# Altium footprint library BoilerAutoFill.PcbLib: 15 footprints
Each footprint in its own frame and in the unit in brackets; x right, y up, seen from the top. Pads: shape width x height; smd on the part's side, far side on the other; paste and mask are expansions set on the pad; w line width, h text height; cw(c..) or ccw(c..) is an arc to the next point about the centre after c.
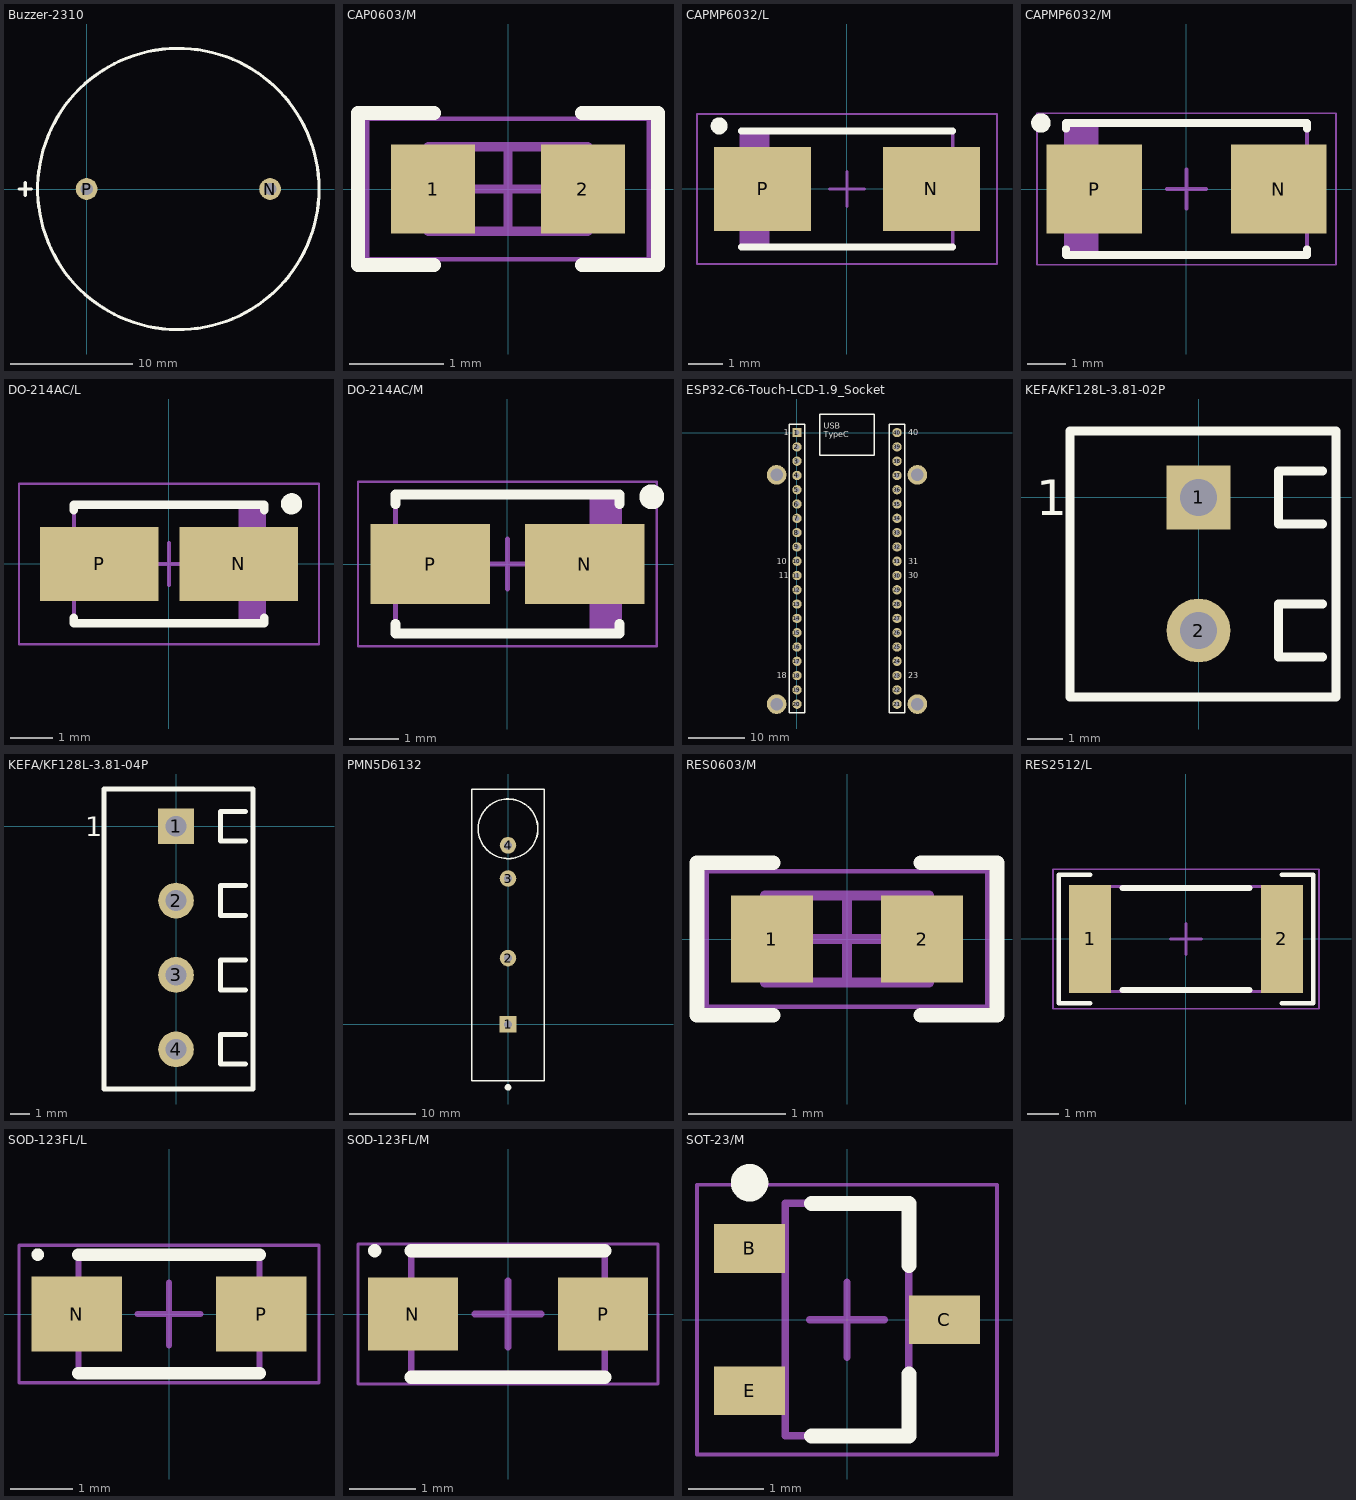
[diagram p0: the footprints below, top view; thin cyan lines are the x and y axes]

## Buzzer-2310 [mil]
height 393.7
pads (2):
  round 70 hole 40: N(590.55,0) P(0,0)
Top Overlay:
  circle w10: c295.28,0 r452.76
  lines w10: -217.5,0 -177.5,0 ; -197.5,-20 -197.5,20
3D body: height 393.7, standoff 0, extent -157.48,-452.76 748.03,452.76

## CAP0603/M [mm] "Chip Capacitor, 2-Leads, Body 1.60x0.80mm, IPC Medium Density"
height 0.9
pads (2):
  rect 0.9x0.95 smd: 1(-0.8,0) 2(0.8,0)
Top Overlay:
  lines w0.15: -0.787,-0.813 -1.6,-0.813 -1.6,0.813 -0.787,0.813 ; 0.787,-0.813 1.6,-0.813 1.6,0.813 0.787,0.813
Mechanical 13:
  lines w0.1: -0.85,-0.45 0.85,-0.45 0.85,0.45 -0.85,0.45 -0.85,-0.45
Mechanical 15:
  lines w0.05: -1.5,-0.75 1.5,-0.75 1.5,0.75 -1.5,0.75 -1.5,-0.75
  lines w0.1: -0.45,0 0.45,0 ; 0,-0.45 0,0.45
3D body "CAPC1608X09N.step": height 0.9, standoff 0, extent -0.85,-0.45 0.85,0.45

## CAPMP6032/L [mm] "Molded Capacitor, 2-Leads, Body 6.00x3.25mm, IPC Low Density"
height 2.8
pads (2):
  rect 2.85x2.45 smd: N(2.475,0) P(-2.475,0)
Top Overlay:
  circle w0.25: c-3.75,1.85 r0.125
  lines w0.2: -3.1,-1.7 3.1,-1.7 ; -3.1,1.7 3.1,1.7
Mechanical 13:
  rectangle: -3.1,-1.7 -2.266,1.7
  lines w0.1: -3.1,-1.7 -3.1,1.7 3.1,1.7 3.1,-1.7 -3.1,-1.7
Mechanical 15:
  lines w0.05: -4.4,-2.2 -4.4,2.2 4.4,2.2 4.4,-2.2 -4.4,-2.2
  lines w0.1: -0.5,0 0.5,0 ; 0,-0.5 0,0.5
3D body "CAPMP6032X28M.step": height 2.8, standoff 0, extent -3.32,-1.7 3.32,1.7

## CAPMP6032/M [mm] "Molded Capacitor, 2-Leads, Body 6.00x3.25mm, IPC Medium Density"
height 2.8
pads (2):
  rect 2.45x2.3 smd: N(2.375,0) P(-2.375,0)
Top Overlay:
  circle w0.25: c-3.75,1.7 r0.125
  lines w0.2: -3.1,-1.55 -3.1,-1.7 3.1,-1.7 3.1,-1.55 ; -3.1,1.55 -3.1,1.7 3.1,1.7 3.1,1.55
Mechanical 13:
  rectangle: -3.1,-1.7 -2.266,1.7
  lines w0.1: -3.1,-1.7 -3.1,1.7 3.1,1.7 3.1,-1.7 -3.1,-1.7
Mechanical 15:
  lines w0.05: -3.85,-1.95 -3.85,1.95 3.85,1.95 3.85,-1.95 -3.85,-1.95
  lines w0.1: -0.5,0 0.5,0 ; 0,-0.5 0,0.5
3D body "CAPMP6032X28N.step": height 2.8, standoff 0, extent -3.32,-1.7 3.32,1.7

## DO-214AC/L [mm] "Molded Diode, 2-Leads, Body 4.25x2.60mm, IPC Low Density"
height 2.42
pads (2):
  rect 2.8x1.75 smd: N(1.65,0) P(-1.65,0)
Top Overlay:
  circle w0.25: c2.9,1.425 r0.125
  lines w0.2: -2.25,-1.275 -2.25,-1.4 2.25,-1.4 2.25,-1.275 ; -2.25,1.275 -2.25,1.4 2.25,1.4 2.25,1.275
Mechanical 13:
  rectangle: 1.645,-1.4 2.25,1.4
  lines w0.1: -2.25,-1.4 2.25,-1.4 2.25,1.4 -2.25,1.4 -2.25,-1.4
Mechanical 15:
  lines w0.05: -3.55,-1.9 3.55,-1.9 3.55,1.9 -3.55,1.9 -3.55,-1.9
  lines w0.1: -0.5,0 0.5,0 ; 0,-0.5 0,0.5
3D body "DIOM4226X24M.step": height 2.42, standoff 0, extent -2.47,-1.4 2.47,1.4

## DO-214AC/M [mm] "Molded Diode, 2-Leads, Body 4.25x2.60mm, IPC Medium Density"
height 2.42
pads (2):
  rect 2.4x1.6 smd: N(1.55,0) P(-1.55,0)
Top Overlay:
  circle w0.25: c2.9,1.35 r0.125
  lines w0.2: -2.25,-1.2 -2.25,-1.4 2.25,-1.4 2.25,-1.2 ; -2.25,1.2 -2.25,1.4 2.25,1.4 2.25,1.2
Mechanical 13:
  rectangle: 1.645,-1.4 2.25,1.4
  lines w0.1: -2.25,-1.4 -2.25,1.4 2.25,1.4 2.25,-1.4 -2.25,-1.4
Mechanical 15:
  lines w0.05: -3,-1.65 -3,1.65 3,1.65 3,-1.65 -3,-1.65
  lines w0.1: -0.5,0 0.5,0 ; 0,-0.5 0,0.5
3D body "DIOM4226X24N.step": height 2.42, standoff 0, extent -2.47,-1.4 2.47,1.4

## ESP32-C6-Touch-LCD-1.9_Socket [mil]
pads (44):
  rect 65x65 hole 35: 1(0,0)
  round 65 hole 35: 2(0,-100) 3(0,-200) 4(0,-300) 5(0,-400) 6(0,-500) 7(0,-600) 8(0,-700) 9(0,-800) 10(0,-900) 11(0,-1000) 12(0,-1100) 13(0,-1200) 14(0,-1300) 15(0,-1400) 16(0,-1500) 17(0,-1600) 18(0,-1700) 19(0,-1800) 20(0,-1900) 21(700,-1900) 22(700,-1800) 23(700,-1700) 24(700,-1600) 25(700,-1500) 26(700,-1400) 27(700,-1300) 28(700,-1200) 29(700,-1100) 30(700,-1000) 31(700,-900) 32(700,-800) 33(700,-700) 34(700,-600) 35(700,-500) 36(700,-400) 37(700,-300) 38(700,-200) 39(700,-100) 40(700,0)
  round 137.8 hole 86.61: ""(-142.13,-1900) ""(-142.13,-295.67) ""(842.13,-1900) ""(842.13,-295.67)
Top Overlay:
  lines w10: -55,-1960 55,-1960 55,60 -55,60 -55,-1960 ; 160,-160 540,-160 540,130 160,130 160,-160 ; 645,-1960 755,-1960 755,60 645,60 645,-1960
  text "USB / TypeC" at 186.72,-32.65 h40
  text "1" at -93.33,-19.99 h40
  text "10" at -139.98,-919.99 h40
  text "11" at -126.65,-1019.99 h40
  text "18" at -139.98,-1719.99 h40
  text "23" at 780,-1719.99 h40
  text "30" at 780,-1019.99 h40
  text "31" at 780,-919.99 h40
  text "40" at 780,-19.99 h40
3D body: height 760, standoff 300, extent -270,-2035 970,135
3D body: height 300, standoff 0, extent 645,-1960 755,60
3D body: height 300, standoff 0, extent -55,-1960 55,60

## KEFA/KF128L-3.81-02P [mil]
pads (2):
  rect 72x72 hole 42: 1(0,0)
  round 72 hole 42: 2(0,-150)
Top Overlay:
  lines w10: 140,-180 90,-180 90,-120 140,-120 ; 140,-30 90,-30 90,30 140,30 ; -145,-225 155,-225 155,75 -145,75 -145,-225
  text "1" at -183.33,-19.99 h40

## KEFA/KF128L-3.81-04P [mil]
pads (4):
  rect 72x72 hole 42: 1(0,0)
  round 72 hole 42: 2(0,-150) 3(0,-300) 4(0,-450)
Top Overlay:
  lines w10: 140,-480 90,-480 90,-420 140,-420 ; 140,-330 90,-330 90,-270 140,-270 ; 140,-180 90,-180 90,-120 140,-120 ; 140,-30 90,-30 90,30 140,30 ; -145,-530 155,-530 155,75 -145,75 -145,-530
  text "1" at -183.33,-19.99 h40

## PMN5D6132 [mm] "ENMG Solid State Relay PMN5D6132"
height 21.5
pads (4):
  rect 2.5x2.5 hole 1.2: 1(0,0)
  round 2.5 hole 1.2: 2(0,10) 3(0,22) 4(0,27)
Top Overlay:
  circle w0.254: c0,29.5 r4.5
  circle w0.5: c0,-9.5 r0.25
  lines w0.2: -5.5,-8.5 5.5,-8.5 5.5,35.5 -5.5,35.5 -5.5,-8.5
3D body: height 21.5, standoff 0, extent -5.5,-8.5 5.5,35.5

## RES0603/M [mm] "Chip Resistor, 2-Leads, Body 1.60x0.80mm, IPC Medium Density"
height 0.55
pads (2):
  rect 0.85x0.9 smd: 1(-0.775,0) 2(0.775,0)
Top Overlay:
  lines w0.15: -0.762,-0.787 -1.549,-0.787 -1.549,0.787 -0.762,0.787 ; 0.762,-0.787 1.549,-0.787 1.549,0.787 0.762,0.787
Mechanical 13:
  lines w0.1: -0.85,-0.45 -0.85,0.45 0.85,0.45 0.85,-0.45 -0.85,-0.45
Mechanical 15:
  lines w0.05: -1.45,-0.7 -1.45,0.7 1.45,0.7 1.45,-0.7 -1.45,-0.7
  lines w0.1: -0.45,0 0.45,0 ; 0,-0.45 0,0.45
3D body "0603RM.step": height 0.55, standoff 0, extent -0.85,-0.45 0.85,0.45

## RES2512/L [mm] "Chip Resistor, 2-Leads, Body 6.35x3.10mm, IPC Low Density"
height 0.65
pads (2):
  rect 1.35x3.5 smd: 1(-3.1,0) 2(3.1,0)
Top Overlay:
  lines w0.15: -3.099,-2.083 -4.115,-2.083 -4.115,2.083 -3.099,2.083 ; 3.099,-2.083 4.115,-2.083 4.115,2.083 3.099,2.083
  lines w0.2: -2.05,-1.65 2.05,-1.65 ; -2.05,1.65 2.05,1.65
Mechanical 13:
  lines w0.1: -3.225,-1.7 -3.225,1.7 3.225,1.7 3.225,-1.7 -3.225,-1.7
Mechanical 15:
  lines w0.05: -4.3,-2.25 -4.3,2.25 4.3,2.25 4.3,-2.25 -4.3,-2.25
  lines w0.1: -0.5,0 0.5,0 ; 0,-0.5 0,0.5
3D body "RESC6431X06M.step": height 0.65, standoff 0, extent -3.225,-1.7 3.225,1.7

## SOD-123FL/L [mm] "SODFL, 2-Leads, Body 1.65x3.60mm, IPC Low Density"
height 0.98
pads (2):
  rect 1.45x1.2 smd: N(-1.475,0) P(1.475,0)
Top Overlay:
  circle w0.1: c-2.1,0.95 r0.05
  lines w0.2: -1.45,-0.95 1.45,-0.95 ; -1.45,0.95 1.45,0.95
Mechanical 13:
  lines w0.1: -1.45,-0.9 -1.45,0.9 1.45,0.9 1.45,-0.9 -1.45,-0.9
Mechanical 15:
  lines w0.05: -2.4,-1.1 -2.4,1.1 2.4,1.1 2.4,-1.1 -2.4,-1.1
  lines w0.1: -0.5,0 0.5,0 ; 0,-0.5 0,0.5
3D body "SODFL360X98-2M.step": height 0.98, standoff 0, extent -1.8,-0.9 1.8,0.9

## SOD-123FL/M [mm] "SODFL, 2-Leads, Body 1.65x3.60mm, IPC Medium Density"
height 0.98
pads (2):
  rect 1.35x1.1 smd: N(-1.425,0) P(1.425,0)
Top Overlay:
  circle w0.1: c-2,0.95 r0.05
  lines w0.2: -1.45,-0.95 1.45,-0.95 ; -1.45,0.95 1.45,0.95
Mechanical 13:
  lines w0.1: -1.45,-0.9 -1.45,0.9 1.45,0.9 1.45,-0.9 -1.45,-0.9
Mechanical 15:
  lines w0.05: -2.25,-1.05 -2.25,1.05 2.25,1.05 2.25,-1.05 -2.25,-1.05
  lines w0.1: -0.5,0 0.5,0 ; 0,-0.5 0,0.5
3D body "SODFL360X98-2N.step": height 0.98, standoff 0, extent -1.8,-0.9 1.8,0.9

## SOT-23/M [mm] "SOT23, 3-Leads, Body 2.90x2.45mm, Pitch 0.95mm, IPC Medium Density"
height 1.4
pads (3):
  rect 0.95x0.65 smd: B(-1.3,0.95) C(1.3,0) E(-1.3,-0.95)
Top Overlay:
  circle w0.25: c-1.3,1.825 r0.125
  lines w0.2: -0.475,-1.55 0.825,-1.55 0.825,-0.725 ; -0.475,1.55 0.825,1.55 0.825,0.725
Mechanical 13:
  lines w0.1: -0.825,-1.55 0.825,-1.55 0.825,1.55 -0.825,1.55 -0.825,-1.55
Mechanical 15:
  lines w0.05: -2,-1.8 2,-1.8 2,1.8 -2,1.8 -2,-1.8
  lines w0.1: -0.5,0 0.5,0 ; 0,-0.5 0,0.5
3D body "SOT95P245X140-3N.step": height 1.4, standoff 0, extent -1.45,-1.55 1.45,1.55